# Altium footprint library LFCSP-16_0_65mm.PcbLib: 1 footprints
Each footprint in its own frame and in the unit in brackets; x right, y up, seen from the top. Pads: shape width x height; smd on the part's side, far side on the other; paste and mask are expansions set on the pad; w line width, h text height; cw(c..) or ccw(c..) is an arc to the next point about the centre after c.
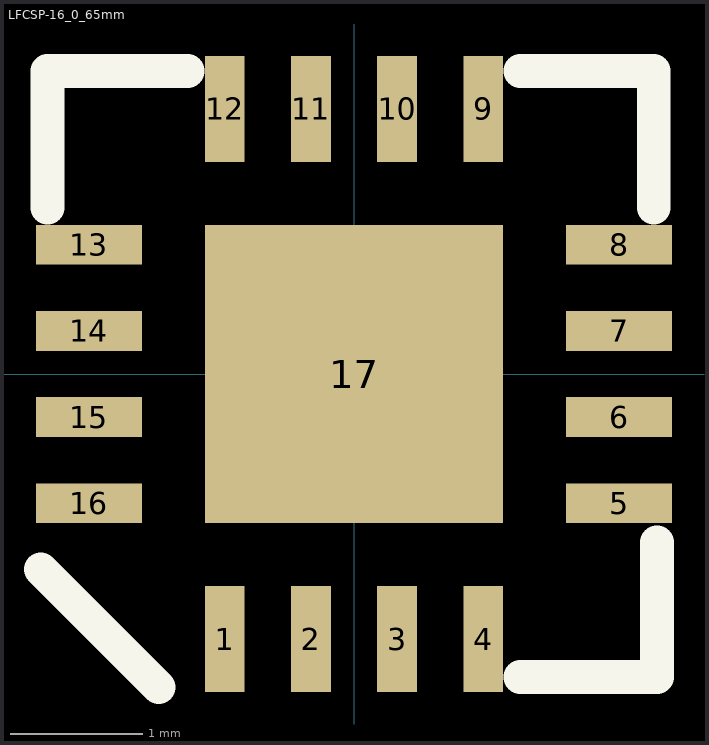
[diagram p0: the footprint, top view; thin cyan lines are the x and y axes]

## LFCSP-16_0_65mm [mm]
height 1
pads (17):
  rect 0.3x0.8 smd: 1(-0.975,-2) 2(-0.325,-2) 3(0.325,-2) 4(0.975,-2) 9(0.975,2) 10(0.325,2) 11(-0.325,2) 12(-0.975,2)
  rect 0.8x0.3 smd: 5(2,-0.975) 6(2,-0.325) 7(2,0.325) 8(2,0.975) 13(-2,0.975) 14(-2,0.325) 15(-2,-0.325) 16(-2,-0.975)
  rect 2.25x2.25 smd: 17(0,0)
TopOverlay:
  lines w0.254: -2.362,-1.473 -1.473,-2.362 ; -2.311,1.254 -2.311,2.286 -1.254,2.286 ; 1.254,-2.286 2.286,-2.286 2.286,-1.27 ; 1.254,2.286 2.261,2.286 2.261,1.254
  text "." at -0.94,-2.667 h0.51
3D body: height 0.92, standoff 0, extent -2,-2 2,2